# Altium schematic symbol library Graviton.SchLib: 15 symbols
Pins are listed as number, name and electrical type; pins without a type are passive.

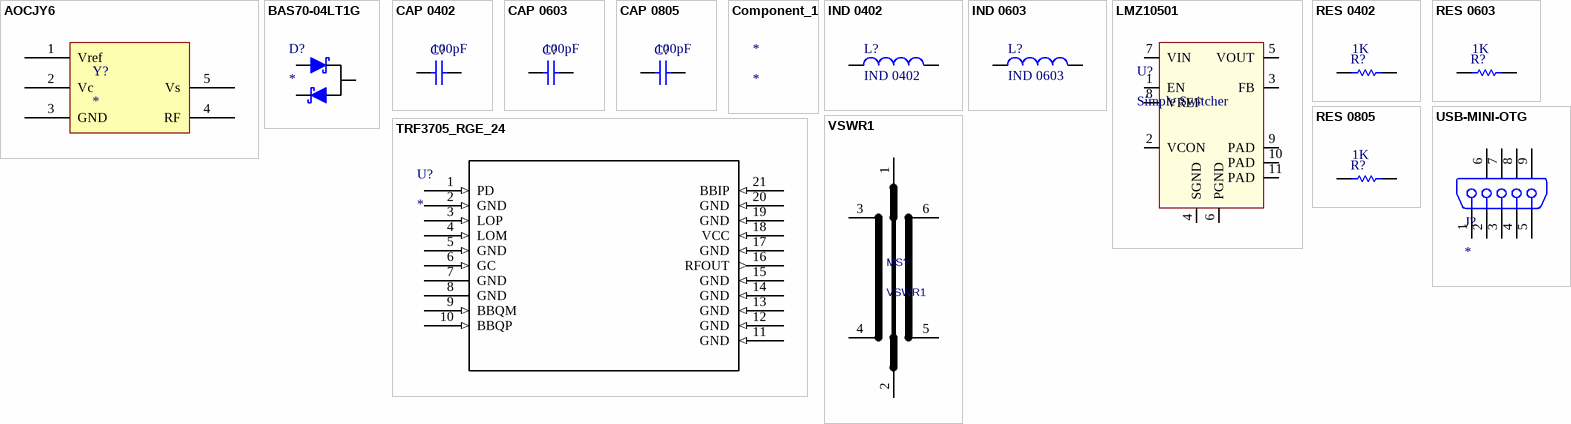
[diagram p0: symbols AOCJY6 to VSWR1]

## AOCJY6
designator Y?
Precision OCXO, 10MHZ, 0.1ppb/C; Manufacturer: Abracon; Manufacturer P/N: AOCJY6-10.000MHZ-1; Do Not Place: *
pins: 1 Vref, 2 Vc, 3 GND, 4 RF, 5 Vs

## BAS70-04LT1G
designator D?
Diode, Dual Schottky, 70V, 100mA.; Manufacturer: ON Semiconductor; Manufacturer P/N: BAS70-04LT1G; Do Not Place: *
footprint SOT-23 (SOT-23/TO-236; 3 Leads)
pins: 1 A, 2 K, 3 C

## CAP 0402
designator C?  value 100pF  (hidden comment: CAP 0402)
Voltage: 16V; PCB Package: 0402; Manufacturer: *; Manufacturer P/N: *; Do Not Place: *
footprint 0402 (SMD 0402 footprint)
pins: 1, 2

## CAP 0603
designator C?  value 100pF  (hidden comment: CAP 0603)
Voltage: 16V; PCB Package: 0603; Manufacturer: *; Manufacturer P/N: *; Do Not Place: *
footprint 0603 (SMD 0603 footprint)
pins: 1, 2

## CAP 0805
designator C?  value 100pF  (hidden comment: CAP 0805)
Voltage: 16V; PCB Package: 0805; Manufacturer: *; Manufacturer P/N: *; Do Not Place: *
footprint 0805 (SMD 0805 Footprint)
pins: 1, 2

## Component_1
designator *
Do Not Place: *

## IND 0402
designator L?
Inductor; Value: 1nH; PCB Package: 0402; Manufacturer P/N: *; Do Not Place: *
footprint 0402 (Footprint not found)
pins: 1, 2

## IND 0603
designator L?
Inductor; Value: 1nH; PCB Package: 0603; Manufacturer P/N: *; Do Not Place: *
footprint 0603 (SMD 0603 footprint)
pins: 1, 2

## LMZ10501
designator U?, comment Simple Switcher
Simple Switcher 1A Nano Module; Manufacturer: Texas Instruments; Manufacturer P/N: LMZ10501; Do Not Place: *
footprint LMZ100501 (Simple Switcher Nano Module)
pins: 1 EN, 2 VCON, 3 FB, 4 SGND, 5 VOUT, 6 PGND, 7 VIN, 8 VREF, 9 PAD, 10 PAD, 11 PAD

## RES 0402
designator R?  value 1K
Resistor, SMD 0402; PCB Package: 0402; Manufacturer: *; Manufacturer P/N: *; Do Not Place: *
footprint 0402 (SMD 0402 footprint)
pins: 1, 2

## RES 0603
designator R?  value 1K
Resistor, SMD 0603; PCB Package: 0603; Manufacturer: *; Manufacturer P/N: *; Do Not Place: *
footprint 0603 (SMD 0603 footprint)
pins: 1, 2

## RES 0805
designator R?  value 1K
Resistor, SMD 0805; PCB Package: 0805; Manufacturer: *; Manufacturer P/N: *; Do Not Place: *
footprint 0805 (SMD 0805 Footprint)
pins: 1, 2

## TRF3705_RGE_24
designator U?
Imported; Manufacturer_Part_Number: trf3705_rge_24; GENERIC_PART_NUMBER: TRF3705; Vendor: Texas Instruments; PACKAGE_DESIGNATOR: RGE; PIN_COUNT: 24; FAMILY_NAME: IQ MODULATOR; INDUSTRY_STD_PKG_TYPE: VQFN; Datasheet URL: http://www.ti.com/lit/gpn/TRF3705; Manufacturer: Texas Instruments; RefDes: RefDes; Type: DEV; Value: Value; Do Not Place: *
footprint RGE24_2P45X2P45
pins: 1 PD (in), 2 GND (in), 3 LOP (in), 4 LOM (in), 5 GND (in), 6 GC (in), 7 GND (power), 8 GND (power), 9 BBQM (in), 10 BBQP (in), 11 GND (in), 12 GND (in), 13 GND (in), 14 GND (in), 15 GND (in), 16 RFOUT (out), 17 GND (in), 18 VCC (in), 19 GND (in), 20 GND (in), 21 BBIP (in)

## USB-MINI-OTG
designator J?
CONN RECEPT USB MINI-AB OTG RT ANG SMD; Manufacturer: Molex; Manufacturer P/N: 0565790576; Do Not Place: *
footprint USBMB
pins: 1 V BUS (5V) "USB Vcc [Red]", 2 D- "USB Data - [White]", 3 D+ "USB Data + [Green]", 4 NC "Not Connected (or joined to pin 5 via resistor)", 5 GND "Ground [Black]", 6 Tab "Shell", 7 Tab "Shell", 8 Tab "Shell", 9 Tab "Shell"

## VSWR1
designator MS?  (no BOM)
VSWR Meter Stripline
footprint VSWR1 (RF coupler)
pins: 1 S1, 2 S2, 3 S3, 4 S4, 5 S5, 6 S6